# Altium footprint library CI.PcbLib: 7 footprints
Each footprint in its own frame and in the unit in brackets; x right, y up, seen from the top. Pads: shape width x height; smd on the part's side, far side on the other; paste and mask are expansions set on the pad; w line width, h text height; cw(c..) or ccw(c..) is an arc to the next point about the centre after c.
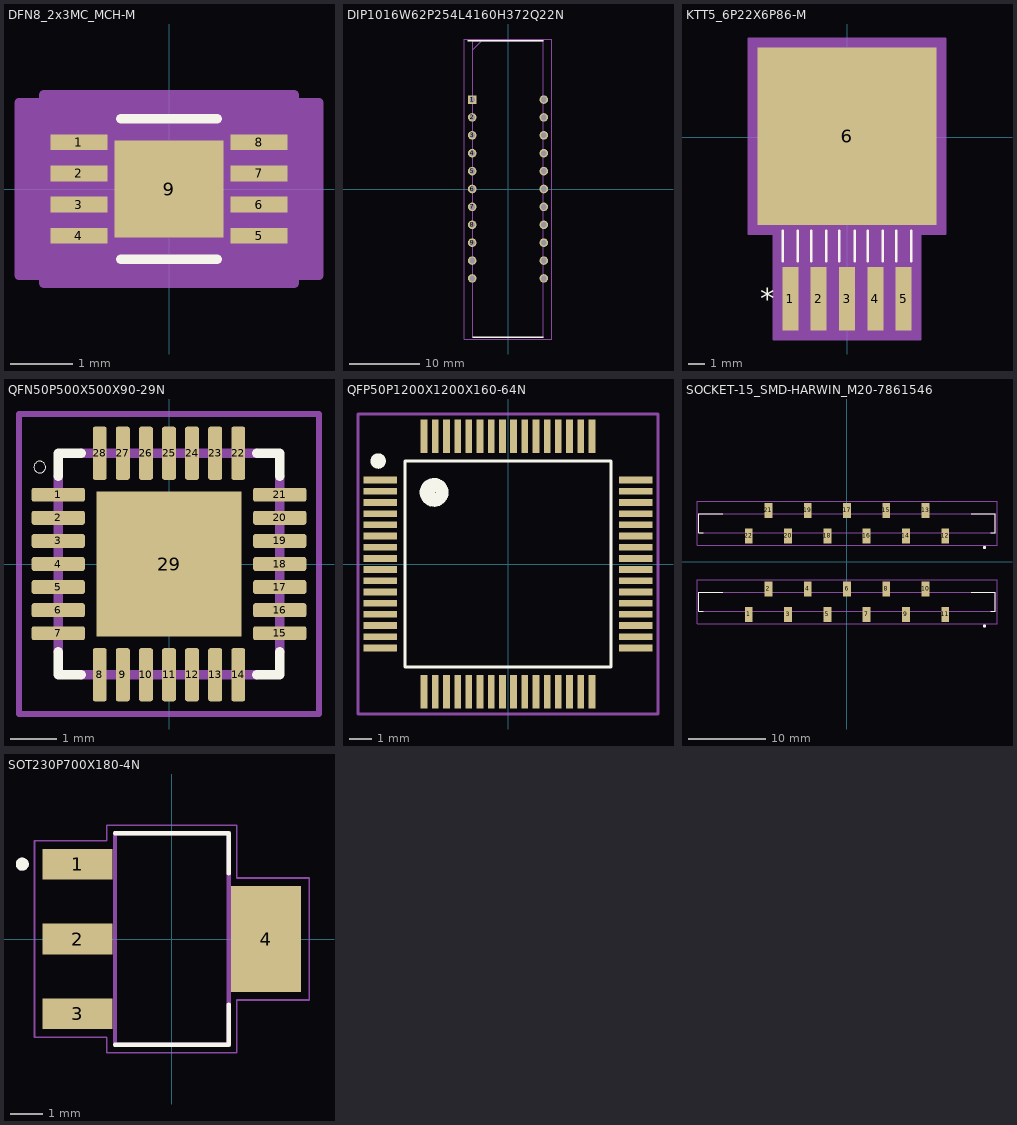
[diagram p0: the footprints below, top view; thin cyan lines are the x and y axes]

## DFN8_2x3MC_MCH-M [mm]
pads (9):
  rect 0.908x0.255 smd paste+0 mask+0: 1(-1.445,0.75) 2(-1.445,0.25) 3(-1.445,-0.25) 4(-1.445,-0.75) 5(1.445,-0.75) 6(1.445,-0.25) 7(1.445,0.25) 8(1.445,0.75)
  rect 1.753x1.549 smd paste+0 mask+0: 9(0,0)
Top Overlay:
  lines w0.152: -0.774,-1.13 0.774,-1.13 ; -0.774,1.13 0.774,1.13
Mechanical 13:
  lines w0.025: -0.305,1.003 ccw(c0,1.003) 0.305,1.003 ; -1.499,-1.003 1.499,-1.003 1.499,1.003 -1.499,1.003 -1.499,-1.003
Mechanical 15:
  region: -2.007,-1.385 -2.407,-1.385 -2.407,1.385 -2.007,1.385 -2.007,1.511 2.007,1.511 2.007,1.385 2.407,1.385 2.407,-1.385 2.007,-1.385 2.007,-1.511 -2.007,-1.511
  lines w0.152: -2.407,-1.385 -2.407,1.385 -2.007,1.385 -2.007,1.511 2.007,1.511 2.007,1.385 2.407,1.385 2.407,-1.385 2.007,-1.385 2.007,-1.511 -2.007,-1.511 -2.007,-1.385 -2.407,-1.385
3D body "DFN8_2x3MC_MCH.step": height 0.94, standoff 0, extent -1.499,-1.003 1.499,1.003

## DIP1016W62P254L4160H372Q22N [mm]
pads (22):
  rect 1.22x1.22 / inner round 1.22 / far side rect 1.22x1.22 hole 0.82: 1(-5.08,12.7)
  round 1.22 hole 0.82: 2(-5.08,10.16) 3(-5.08,7.62) 4(-5.08,5.08) 5(-5.08,2.54) 6(-5.08,0) 7(-5.08,-2.54) 8(-5.08,-5.08) 9(-5.08,-7.62) 10(-5.08,-10.16) 11(-5.08,-12.7) 12(5.08,-12.7) 13(5.08,-10.16) 14(5.08,-7.62) 15(5.08,-5.08) 16(5.08,-2.54) 17(5.08,0) 18(5.08,2.54) 19(5.08,5.08) 20(5.08,7.62) 21(5.08,10.16) 22(5.08,12.7)
Top Overlay:
  lines w0.2: -5.69,21.05 4.975,21.05 ; -4.975,-21.05 4.975,-21.05
Mechanical 15:
  lines w0.1: -4.975,19.78 -3.705,21.05 ; -4.975,-21.05 -4.975,21.05 4.975,21.05 4.975,-21.05 -4.975,-21.05
Mechanical 20:
  lines w0.05: -6.19,-21.3 -6.19,21.3 6.19,21.3 6.19,-21.3 -6.19,-21.3
3D body "TCD1304DG_8Z,AW_.stp": height 3.72, standoff -3.5, extent -5.235,-20.8 5.235,20.8

## KTT5_6P22X6P86-M [mil]
pads (6):
  rect 38x150 smd paste+0 mask+0: 1(-133.86,-382) 2(-66.93,-382) 3(0,-382) 4(66.93,-382) 5(133.86,-382)
  rect 424x420 smd paste+0 mask+0: 6(0,2)
Top Overlay:
  lines w6: -151.86,-293 -151.86,-221.1 ; -115.86,-293 -115.86,-221.1 ; -84.93,-293 -84.93,-221.1 ; -48.93,-293 -48.93,-221.1 ; -18,-293 -18,-221.1 ; 18,-293 18,-221.1 ; 48.93,-293 48.93,-221.1 ; 84.93,-293 84.93,-221.1 ; 115.86,-293 115.86,-221.1 ; 151.86,-293 151.86,-221.1
  text "*" at -204.82,-407 h50
Mechanical 13:
  lines w1: -210,-190 210,-190 210,190 -210,190 -210,-190 ; -151.86,-435 -151.86,-190 -115.86,-190 -115.86,-435 -151.86,-435 ; -84.93,-435 -84.93,-190 -48.93,-190 -48.93,-435 -84.93,-435 ; -18,-435 -18,-190 18,-190 18,-435 -18,-435 ; 48.93,-435 48.93,-190 84.93,-190 84.93,-435 48.93,-435 ; 115.86,-435 115.86,-190 151.86,-190 151.86,-435 115.86,-435
  text "*" at -146.36,-205 h50
Mechanical 15:
  region: -172.86,-228 -232,-228 -232,232 232,232 232,-228 172.86,-228 172.86,-477 -172.86,-477
  lines w6: -232,-228 -232,232 232,232 232,-228 172.86,-228 172.86,-477 -172.86,-477 -172.86,-228 -232,-228
3D body "KTT5_6P22X6P86.step": height 67.09, standoff -2.01, extent -210,-292.52 210,190.12

## QFN50P500X500X90-29N [mm]
pads (29):
  rrect30% 1.15x0.3 smd paste+0 mask+0: 1(-2.4,1.5) 2(-2.4,1) 3(-2.4,0.5) 4(-2.4,0) 5(-2.4,-0.5) 6(-2.4,-1) 7(-2.4,-1.5) 15(2.4,-1.5) 16(2.4,-1) 17(2.4,-0.5) 18(2.4,0) 19(2.4,0.5) 20(2.4,1) 21(2.4,1.5)
  rrect30% 0.3x1.15 smd paste+0 mask+0: 8(-1.5,-2.4) 9(-1,-2.4) 10(-0.5,-2.4) 11(0,-2.4) 12(0.5,-2.4) 13(1,-2.4) 14(1.5,-2.4) 22(1.5,2.4) 23(1,2.4) 24(0.5,2.4) 25(0,2.4) 26(-0.5,2.4) 27(-1,2.4) 28(-1.5,2.4)
  rect 3.15x3.15 smd paste-0.574 mask+0.102: 29(0,0)
Top Overlay:
  circle w0: c-2.8,2.1 r0.127
  lines w0.203: -2.398,-1.902 -2.398,-2.398 -1.902,-2.398 ; -2.398,1.902 -2.398,2.398 -1.902,2.398 ; 1.902,-2.398 2.398,-2.398 2.398,-1.902 ; 1.902,2.398 2.398,2.398 2.398,1.902
Top Solder:
  region: -1.301,1.775 -1.7,1.775 -1.7,3.026 -1.301,3.026
  region: -0.802,1.775 -1.2,1.775 -1.2,3.027 -0.802,3.027
  region: -0.301,1.775 -0.7,1.775 -0.7,3.026 -0.301,3.026
  region: 0.2,1.775 -0.2,1.775 -0.2,3.025 0.2,3.025
  region: 0.698,1.777 0.302,1.777 0.302,3.027 0.698,3.027
  region: 1.199,1.776 0.801,1.776 0.801,3.026 1.199,3.026
  region: 1.7,1.775 1.3,1.775 1.3,3.025 1.7,3.025
  region: 3.025,-1.7 1.775,-1.7 1.775,-1.3 3.025,-1.3
  region: 3.025,-1.2 1.775,-1.2 1.775,-0.8 3.025,-0.8
  region: 3.025,-0.701 1.778,-0.701 1.778,-0.3 3.025,-0.3
  region: 3.025,-0.2 1.777,-0.2 1.777,0.2 3.025,0.2
  region: 3.025,0.3 1.776,0.3 1.776,0.7 3.025,0.7
  region: 3.025,0.801 1.778,0.801 1.778,1.2 3.025,1.2
  region: 3.025,1.301 1.776,1.301 1.776,1.7 3.025,1.7
  region: -1.3,-3.026 -1.701,-3.026 -1.701,-1.775 -1.3,-1.775
  region: -0.799,-3.029 -1.204,-3.029 -1.204,-1.776 -0.799,-1.776
  region: -0.299,-3.028 -0.703,-3.028 -0.703,-1.776 -0.299,-1.776
  region: 0.201,-3.027 -0.202,-3.027 -0.202,-1.776 0.201,-1.776
  region: 0.701,-3.026 0.299,-3.026 0.299,-1.776 0.701,-1.776
  region: 1.201,-3.026 0.799,-3.026 0.799,-1.776 1.201,-1.776
  region: 1.703,-3.027 1.298,-3.027 1.298,-1.778 1.703,-1.778
  region: -1.775,1.3 -3.025,1.3 -3.025,1.7 -1.775,1.7
  region: -1.775,0.801 -3.028,0.801 -3.028,1.2 -1.775,1.2
  region: -1.775,0.3 -3.027,0.3 -3.027,0.7 -1.775,0.7
  region: -1.775,-0.2 -3.026,-0.2 -3.026,0.2 -1.775,0.2
  region: -1.775,-0.701 -3.029,-0.701 -3.029,-0.3 -1.775,-0.3
  region: -1.775,-1.201 -3.028,-1.201 -3.028,-0.8 -1.775,-0.8
  region: -1.775,-1.703 -3.03,-1.703 -3.03,-1.3 -1.775,-1.3
Mechanical 13:
  lines w0.203: -2.4,-1.9 -2.4,1.9 ; -1.9,-2.4 1.9,-2.4 ; -1.9,2.4 1.9,2.4 ; 2.4,-1.9 2.4,1.9
Mechanical 15:
  lines w0.127: -3.25,-3.25 -3.25,3.25 3.25,3.25 3.25,-3.25 -3.25,-3.25
3D body "step_temp.STEP": height 0.9, standoff 0, extent -2.4,-2.4 2.4,2.4

## QFP50P1200X1200X160-64N [mm]
pads (64):
  rect 1.5x0.3 smd: 1(-5.7,3.75) 2(-5.7,3.25) 3(-5.7,2.75) 4(-5.7,2.25) 5(-5.7,1.75) 6(-5.7,1.25) 7(-5.7,0.75) 8(-5.7,0.25) 9(-5.7,-0.25) 10(-5.7,-0.75) 11(-5.7,-1.25) 12(-5.7,-1.75) 13(-5.7,-2.25) 14(-5.7,-2.75) 15(-5.7,-3.25) 16(-5.7,-3.75) 33(5.7,-3.75) 34(5.7,-3.25) 35(5.7,-2.75) 36(5.7,-2.25) 37(5.7,-1.75) 38(5.7,-1.25) 39(5.7,-0.75) 40(5.7,-0.25) 41(5.7,0.25) 42(5.7,0.75) 43(5.7,1.25) 44(5.7,1.75) 45(5.7,2.25) 46(5.7,2.75) 47(5.7,3.25) 48(5.7,3.75)
  rect 0.3x1.5 smd: 17(-3.75,-5.7) 18(-3.25,-5.7) 19(-2.75,-5.7) 20(-2.25,-5.7) 21(-1.75,-5.7) 22(-1.25,-5.7) 23(-0.75,-5.7) 24(-0.25,-5.7) 25(0.25,-5.7) 26(0.75,-5.7) 27(1.25,-5.7) 28(1.75,-5.7) 29(2.25,-5.7) 30(2.75,-5.7) 31(3.25,-5.7) 32(3.75,-5.7) 49(3.75,5.7) 50(3.25,5.7) 51(2.75,5.7) 52(2.25,5.7) 53(1.75,5.7) 54(1.25,5.7) 55(0.75,5.7) 56(0.25,5.7) 57(-0.25,5.7) 58(-0.75,5.7) 59(-1.25,5.7) 60(-1.75,5.7) 61(-2.25,5.7) 62(-2.75,5.7) 63(-3.25,5.7) 64(-3.75,5.7)
Top Overlay:
  circle w0.127: c-5.9,4.6 r0.1
  circle w0.127: c-5.8,4.6 r0.141
  circle w0.127: c-5.8,4.6 r0.1
  circle w0.127: c-5.8,4.6 r0.141
  circle w0.127: c-5.8,4.6 r0.224
  circle w0.127: c-5.8,4.6 r0.283
  circle w0.127: c-3.4,3.2 r0.1
  circle w0.127: c-3.3,3.2 r0.224
  circle w0.127: c-3.3,3.2 r0.141
  circle w0.127: c-3.3,3.2 r0.361
  circle w0.127: c-3.3,3.2 r0.283
  circle w0.127: c-3.3,3.2 r0.424
  circle w0.127: c-3.3,3.2 r0.5
  circle w0.127: c-3.3,3.2 r0.566
  circle w0.127: c-3.3,3.2 r0.583
  lines w0.127: -4.6,-4.6 -4.6,4.6 4.6,4.6 4.6,-4.6 -4.6,-4.6
Mechanical 15:
  lines w0.127: -6.7,-6.7 -6.7,6.7 6.7,6.7 6.7,-6.7 -6.7,-6.7
3D body "step_temp.STEP": height 1.6, standoff 0, extent -6,-6 6,6

## SOCKET-15_SMD-HARWIN_M20-7861546 [mm]
pads (22):
  rect 1.02x1.9 smd: 1(-12.659,-6.837) 2(-10.119,-3.537) 3(-7.579,-6.837) 4(-5.039,-3.537) 5(-2.499,-6.837) 6(0.041,-3.537) 7(2.581,-6.837) 8(5.121,-3.537) 9(7.661,-6.837) 10(10.201,-3.537) 11(12.741,-6.837) 12(12.741,3.323) 13(10.201,6.623) 14(7.661,3.323) 15(5.121,6.623) 16(2.581,3.323) 17(0.041,6.623) 18(-2.499,3.323) 19(-5.039,6.623) 20(-7.579,3.323) 21(-10.119,6.623) 22(-12.659,3.323)
Top Overlay:
  circle w0.2: c17.821,1.823 r0.1
  circle w0.2: c17.821,-8.337 r0.1
  lines w0.127: -18.569,-6.437 -19.109,-6.437 -19.109,-3.937 -16.029,-3.937 ; -18.569,3.723 -19.109,3.723 -19.109,6.223 -16.029,6.223 ; 16.111,-3.937 19.191,-3.937 19.191,-6.437 18.651,-6.437 ; 16.111,6.223 19.191,6.223 19.191,3.723 18.651,3.723
Mechanical 13:
  circle w0.2: c17.821,1.823 r0.1
  circle w0.2: c17.821,-8.337 r0.1
  lines w0.127: -19.109,-6.437 19.191,-6.437 19.191,-3.937 -19.109,-3.937 -19.109,-6.437 ; -19.109,3.723 19.191,3.723 19.191,6.223 -19.109,6.223 -19.109,3.723
Mechanical 15:
  lines w0.05: -19.359,-8.037 19.441,-8.037 19.441,-2.337 -19.359,-2.337 -19.359,-8.037 ; -19.359,2.123 19.441,2.123 19.441,7.823 -19.359,7.823 -19.359,2.123
3D body "TCD1304DG_8Z,AW_.stp": height 11.34, standoff 4.12, extent -20.8,-5.235 20.8,5.235
3D body "m20-7861546.stp": height 7.62, standoff 0.12, extent -19.05,-7.078 19.05,-3.082
3D body "m20-7861546.stp": height 7.62, standoff 0.12, extent -19.05,3.082 19.05,7.078

## SOT230P700X180-4N [mm]
pads (4):
  rect 2.15x0.95 smd paste+0 mask+0.102: 1(-2.9,2.3) 2(-2.9,0) 3(-2.9,-2.3)
  rect 2.15x3.25 smd paste+0 mask+0.102: 4(2.9,0)
Top Overlay:
  circle w0.2: c-4.6,2.3 r0.1
  lines w0.127: -1.75,-3.25 1.75,-3.25 1.75,-2.01 ; -1.75,3.25 1.75,3.25 1.75,2.01
Mechanical 13:
  circle w0.2: c-4.6,2.3 r0.1
  lines w0.127: -1.75,-3.25 -1.75,3.25 1.75,3.25 1.75,-3.25 -1.75,-3.25
Mechanical 15:
  lines w0.05: -4.225,-3.025 -4.225,3.025 -2,3.025 -2,3.5 2,3.5 2,1.875 4.225,1.875 4.225,-1.875 2,-1.875 2,-3.5 -2,-3.5 -2,-3.025 -4.225,-3.025
3D body "step_temp.STEP": height 1.8, standoff 0, extent -3.499,-3.25 3.499,3.25